# Altium schematic symbol library EVE-JBBF2020B.Schlib: 1 symbol
Pins are listed as number, name and electrical type; pins without a type are passive.

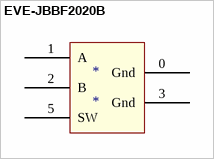
[diagram p0: symbol EVE-JBBF2020B]

## EVE-JBBF2020B
designator *
pins: 0 Gnd, 1 A, 2 B, 3 Gnd, 5 SW